# Altium footprint library LED_SMD.PcbLib: 91 footprints (part 5 of 6)
Each footprint in its own frame and in the unit in brackets; x right, y up, seen from the top. Pads: shape width x height; smd on the part's side, far side on the other; paste and mask are expansions set on the pad; w line width, h text height; cw(c..) or ccw(c..) is an arc to the next point about the centre after c.
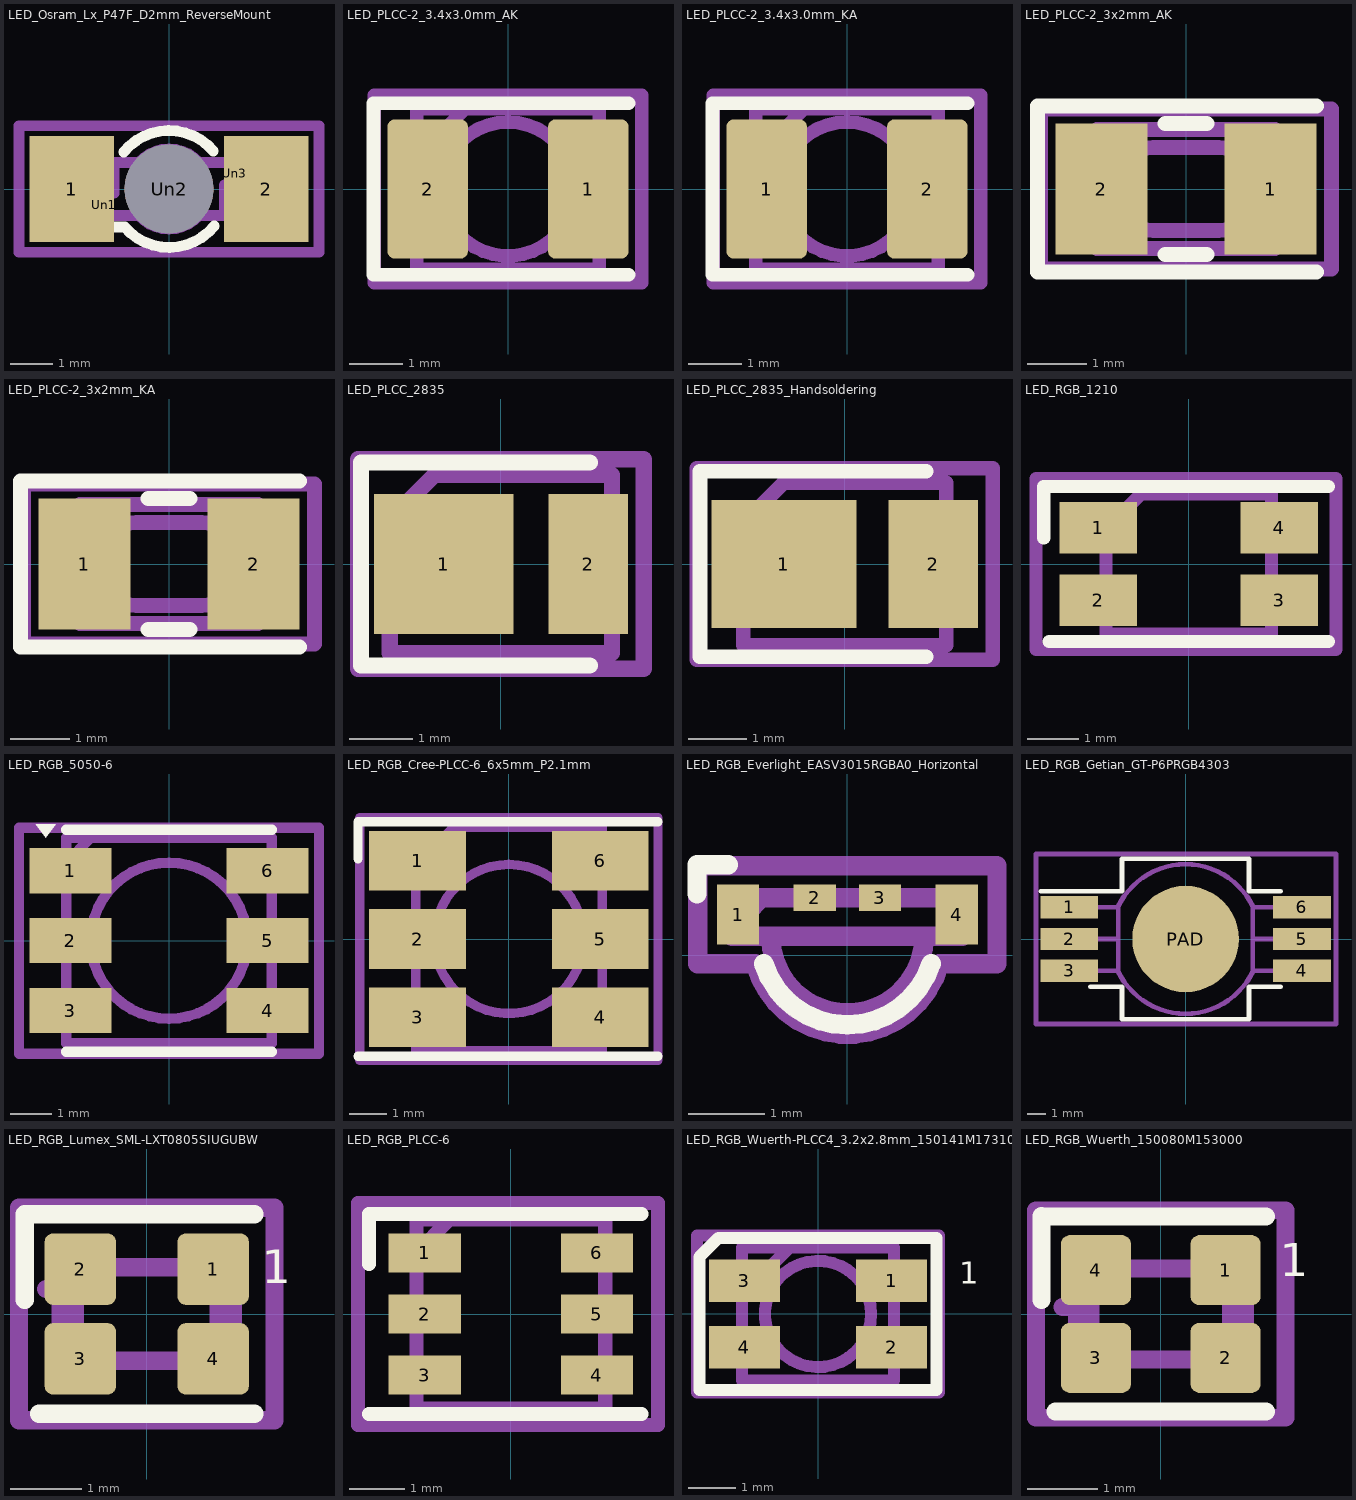
[diagram p4: the footprints below, top view; thin cyan lines are the x and y axes]

## LED_Osram_Lx_P47F_D2mm_ReverseMount [mm]
pads (5):
  rect 2x2.5 smd: 1(-2.3,0) 2(2.3,0)
  rect 0.5x0.7 on Top Paste: Un1(-1.55,-0.375) Un3(1.55,0.375)
  round 2.1 hole 2.1: Un2(0,0)
F.SilkS:
  lines w0.254: -2,-0.9 -1.05,-0.9 ccw(c0,0) 1.069,-0.878 ; -1.069,0.878 cw(c0,0) 1.05,0.9
F.CrtYd:
  lines w0.254: -3.55,-1.5 -3.55,1.5 3.55,1.5 3.55,-1.5 -3.55,-1.5
F.Fab:
  lines w0.254: -0.715,0.625 -1.3,0.625 -1.3,-0.1 -1.5,-0.1 -1.7,-0.3 -1.7,-0.625 -0.715,-0.625 ccw(c0,0) 0.714,-0.626 ; -0.714,0.626 cw(c0,0) 0.715,0.625 1.705,0.625 1.705,0.095 1.315,0.095 1.315,-0.625 0.715,-0.625
  text "'.Designator'" at -0.862,-0.239 h0.6

## LED_PLCC-2_3.4x3.0mm_AK [mm]
pads (2):
  rrect17% 1.5x2.6 smd: 1(1.5,0) 2(-1.5,0)
F.SilkS:
  lines w0.254: 2.25,-1.6 -2.51,-1.6 -2.51,1.6 2.25,1.6
F.CrtYd:
  lines w0.254: -2.5,-1.75 -2.5,1.75 2.5,1.75 2.5,-1.75 -2.5,-1.75
F.Fab:
  circle w0.254: c0,0 r1.25
  lines w0.254: -1.7,0.6 -0.8,1.5 ; -1.7,-1.5 -1.7,1.5 1.7,1.5 1.7,-1.5 -1.7,-1.5
  text "'.Designator'" at -0.862,-0.239 h0.6

## LED_PLCC-2_3.4x3.0mm_KA [mm]
pads (2):
  rrect17% 1.5x2.6 smd: 1(-1.5,0) 2(1.5,0)
F.SilkS:
  lines w0.254: 2.25,-1.6 -2.51,-1.6 -2.51,1.6 2.25,1.6
F.CrtYd:
  lines w0.254: -2.5,-1.75 -2.5,1.75 2.5,1.75 2.5,-1.75 -2.5,-1.75
F.Fab:
  circle w0.254: c0,0 r1.25
  lines w0.254: -1.7,0.6 -0.8,1.5 ; -1.7,-1.5 -1.7,1.5 1.7,1.5 1.7,-1.5 -1.7,-1.5
  text "'.Designator'" at -0.862,-0.239 h0.6

## LED_PLCC-2_3x2mm_AK [mm]
pads (2):
  rect 1.55x2.2 smd: 1(1.425,0) 2(-1.425,0)
F.SilkS:
  lines w0.254: -0.35,-1.1 0.35,-1.1 ; -0.35,1.1 0.35,1.1 ; 2.2,-1.4 -2.5,-1.4 -2.5,1.4 2.2,1.4
F.CrtYd:
  lines w0.254: -2.45,-1.35 -2.45,1.35 2.45,1.35 2.45,-1.35 -2.45,-1.35
F.Fab:
  lines w0.254: -1.5,0.4 -0.9,1 ; -1.5,-1 -1.5,1 1.5,1 1.5,-1 -1.5,-1 ; -0.55,-0.7 0.55,-0.7 ccw(c0.55,0) 0.55,0.7 -0.55,0.7 ccw(c-0.55,0) -0.55,-0.7
  text "'.Designator'" at -0.719,-0.199 h0.5

## LED_PLCC-2_3x2mm_KA [mm]
pads (2):
  rect 1.55x2.2 smd: 1(-1.425,0) 2(1.425,0)
F.SilkS:
  lines w0.254: -0.35,-1.1 0.35,-1.1 ; -0.35,1.1 0.35,1.1 ; 2.2,-1.4 -2.5,-1.4 -2.5,1.4 2.2,1.4
F.CrtYd:
  lines w0.254: -2.45,-1.35 -2.45,1.35 2.45,1.35 2.45,-1.35 -2.45,-1.35
F.Fab:
  lines w0.254: -1.5,0.4 -0.9,1 ; -1.5,-1 -1.5,1 1.5,1 1.5,-1 -1.5,-1 ; -0.55,-0.7 0.55,-0.7 ccw(c0.55,0) 0.55,0.7 -0.55,0.7 ccw(c-0.55,0) -0.55,-0.7
  text "'.Designator'" at -0.719,-0.199 h0.5

## LED_PLCC_2835 [mm]
pads (2):
  rect 2.2x2.2 smd: 1(-0.9,0)
  rect 1.25x2.2 smd: 2(1.375,0)
F.SilkS:
  lines w0.254: 1.4,-1.6 -2.2,-1.6 -2.2,1.6 1.4,1.6
F.CrtYd:
  lines w0.254: -2.25,-1.65 -2.25,1.65 2.25,1.65 2.25,-1.65 -2.25,-1.65
F.Fab:
  lines w0.254: -1.75,-1.4 -1.75,0.7 -1.05,1.4 1.75,1.4 1.75,-1.4 -1.75,-1.4
  text "'.Designator'" at -1.296,-0.359 h0.9

## LED_PLCC_2835_Handsoldering [mm]
pads (2):
  rect 2.5x2.2 smd: 1(-1.05,0)
  rect 1.55x2.2 smd: 2(1.525,0)
F.SilkS:
  lines w0.254: 1.4,-1.6 -2.5,-1.6 -2.5,1.6 1.4,1.6
F.CrtYd:
  lines w0.254: -2.55,-1.65 -2.55,1.65 2.55,1.65 2.55,-1.65 -2.55,-1.65
F.Fab:
  lines w0.254: -1.75,-1.4 -1.75,0.7 -1.05,1.4 1.75,1.4 1.75,-1.4 -1.75,-1.4
  text "'.Designator'" at -1.296,-0.359 h0.9

## LED_RGB_1210 [mm]
pads (4):
  rect 1.5x1 smd: 1(-1.75,0.7) 2(-1.75,-0.7) 3(1.75,-0.7) 4(1.75,0.7)
F.SilkS:
  lines w0.254: -2.8,0.5 -2.8,1.5 2.7,1.5 ; -2.7,-1.5 2.7,-1.5
F.CrtYd:
  lines w0.254: -2.95,-1.65 -2.95,1.65 2.85,1.65 2.85,-1.65 -2.95,-1.65
F.Fab:
  lines w0.254: -1.6,-1.35 -1.6,0.675 -0.925,1.35 1.6,1.35 1.6,-1.35 -1.6,-1.35
  text "'.Designator'" at -1.439,1.902 h1

## LED_RGB_5050-6 [mm]
pads (6):
  rect 2x1.1 smd: 1(-2.4,1.7) 2(-2.4,0) 3(-2.4,-1.7) 4(2.4,-1.7) 5(2.4,0) 6(2.4,1.7)
F.SilkS:
  region: -3,2.5 -3.24,2.83 -2.76,2.83
  lines w0.254: -2.5,-2.7 2.5,-2.7 ; -2.5,2.7 2.5,2.7
F.CrtYd:
  lines w0.254: -3.65,-2.75 -3.65,2.75 3.65,2.75 3.65,-2.75 -3.65,-2.75
F.Fab:
  circle w0.254: c0,0 r1.9
  lines w0.254: -2.5,1.9 -1.9,2.5 ; -2.5,-2.5 -2.5,2.5 2.5,2.5 2.5,-2.5 -2.5,-2.5
  text "'.Designator'" at -0.862,-0.239 h0.6

## LED_RGB_Cree-PLCC-6_6x5mm_P2.1mm [mm]
pads (6):
  rect 2.6x1.6 smd: 1(-2.45,2.1) 2(-2.45,0) 3(-2.45,-2.1) 4(2.45,-2.1) 5(2.45,0) 6(2.45,2.1)
F.SilkS:
  lines w0.254: -4.05,-3.15 4,-3.15 ; -4.05,2.15 -4.05,3.15 4,3.15
F.CrtYd:
  lines w0.254: -4,-3.25 -4,3.25 4,3.25 4,-3.25 -4,-3.25
F.Fab:
  circle w0.254: c0,0 r2
  lines w0.254: -2.5,-3 -2.5,1.9 -1.5,3 2.5,3 2.5,-3 -2.5,-3
  text "'.Designator'" at -1.339,-0.598 h1

## LED_RGB_Everlight_EASV3015RGBA0_Horizontal [mm]
pads (4):
  rect 0.55x0.78 smd: 1(-1.425,0.53) 4(1.425,0.53)
  rect 0.55x0.34 smd: 2(-0.425,0.75) 3(0.425,0.75)
F.SilkS:
  lines w0.254: -1.96,0.8 -1.96,1.18 -1.55,1.18 ; -1.09,-0.11 ccw(c0,0.237) 1.09,-0.11
F.CrtYd:
  lines w0.254: -1.95,-0.11 -1.95,1.17 1.95,1.17 1.95,-0.11 1.2,-0.11 cw(c0,0.213) -1.2,-0.11 -1.95,-0.11
F.Fab:
  lines w0.254: -1.5,0.36 -1.12,0.75 ; -1,0.25 ccw(c0,0.25) 1,0.25 ; -1.5,0.25 -1.5,0.75 1.5,0.75 1.5,0.25 -1.5,0.25
  text "'.Designator'" at -0.431,-0.119 h0.3

## LED_RGB_Getian_GT-P6PRGB4303 [mm]
pads (7):
  rect 3.1x1.2 smd: 1(-6.22,1.7) 2(-6.22,0) 3(-6.22,-1.7) 4(6.22,-1.7) 5(6.22,0) 6(6.22,1.7)
  round 5.7 smd: PAD(0,0)
F.SilkS:
  lines w0.254: -7.75,2.55 -3.4,2.55 -3.4,4.3 3.4,4.3 3.4,2.55 4.7,2.55 5.1,2.55 ; -5.1,-2.55 -3.4,-2.55 -3.4,-4.3 3.4,-4.3 3.4,-2.55 5.1,-2.55
F.CrtYd:
  lines w0.254: -8,-4.55 -8,4.55 8.05,4.55 8.05,-4.55 -8,-4.55
F.Fab:
  lines w0.254: -6.2,-1.7 -3.6,-1.7 ; -6.2,0 -3.6,0 ; -6.2,1.7 -3.6,1.7 ; -3.625,-1.69 ccw(c0,0) 0,-4 ccw(c0,0) 3.625,-1.69 ; -3.625,1.69 cw(c0,0) 0,4 cw(c0,0) 3.625,1.69 ; -3.6,-1.8 -3.6,1.8 ; 3.6,-1.8 3.6,1.8 ; 3.6,-1.7 6.3,-1.7 ; 3.6,0 6.3,0 ; 3.6,1.7 6.3,1.7

## LED_RGB_Lumex_SML-LXT0805SIUGUBW [mm]
pads (4):
  rrect25% 1x1 smd: 1(0.925,0.625) 2(-0.925,0.625) 3(-0.925,-0.625) 4(0.925,-0.625)
F.SilkS:
  lines w0.254: -1.7,0.2 -1.7,1.39 1.5,1.39 ; -1.5,-1.39 1.5,-1.39
  text "1" at 1.6,0.279 h0.8
F.CrtYd:
  lines w0.254: -1.78,-1.48 -1.78,1.48 1.78,1.48 1.78,-1.48 -1.78,-1.48
F.Fab:
  lines w0.254: -1.4,0.35 -1.2,0.35 ; -1.2,-0.5 -1.2,0.5 ; 1.2,-0.5 1.2,0.5 ; -1,-0.65 -1,0.4 -0.75,0.65 1,0.65 1,-0.65 -1,-0.65
  text "'.Designator'" at -0.719,-0.199 h0.5

## LED_RGB_PLCC-6 [mm]
pads (6):
  rect 1.3x0.7 smd: 1(-1.55,1.1) 2(-1.55,0) 3(-1.55,-1.1) 4(1.55,-1.1) 5(1.55,0) 6(1.55,1.1)
F.SilkS:
  lines w0.254: -2.55,-1.8 2.35,-1.8 ; -2.55,0.9 -2.55,1.8 2.35,1.8
F.CrtYd:
  lines w0.254: -2.75,-2 -2.75,2 2.65,2 2.65,-2 -2.75,-2
F.Fab:
  lines w0.254: -1.7,1.1 -1.1,1.7 ; -1.7,-1.7 -1.7,1.7 1.7,1.7 1.7,-1.7 -1.7,-1.7

## LED_RGB_Wuerth-PLCC4_3.2x2.8mm_150141M173100 [mm]
pads (4):
  rect 1.5x0.9 smd: 1(1.55,0.7) 2(1.55,-0.7) 3(-1.55,0.7) 4(-1.55,-0.7)
F.SilkS:
  lines w0.254: -2.5,-1.6 -2.5,1.2 -2.1,1.6 2.5,1.6 2.5,-1.6 -2.5,-1.6
  text "1" at 2.972,0.479 h0.8
F.CrtYd:
  lines w0.254: -2.55,-1.65 -2.55,1.65 2.55,1.65 2.55,-1.65 -2.55,-1.65
F.Fab:
  circle w0.254: c0,0 r1.12
  lines w0.254: -1.6,0.4 -0.6,1.4 ; -1.6,-1.4 -1.6,1.4 1.6,1.4 1.6,-1.4 -1.6,-1.4
  text "'.Designator'" at -0.719,-0.199 h0.5

## LED_RGB_Wuerth_150080M153000 [mm]
pads (4):
  rrect25% 1x1 smd: 1(0.925,0.625) 2(0.925,-0.625) 3(-0.925,-0.625) 4(-0.925,0.625)
F.SilkS:
  lines w0.254: -1.7,0.2 -1.7,1.4 ; -1.69,1.39 1.5,1.39 ; -1.5,-1.39 1.5,-1.39
  text "1" at 1.7,0.379 h0.8
F.CrtYd:
  lines w0.254: -1.78,-1.48 -1.78,1.48 1.78,1.48 1.78,-1.48 -1.78,-1.48
F.Fab:
  lines w0.254: -1.4,0.1 -1.2,0.1 ; -1.2,-0.1 -1.2,0.5 ; 1.2,-0.5 1.2,0.5 ; -1,-0.65 -1,0.4 -0.75,0.65 1,0.65 1,-0.65 -1,-0.65
  text "'.Designator'" at -0.719,-0.199 h0.5